# EAGLE library part 418121270812 (library Wurth_Elektronik_Electromechanic_Switchs_rev15b)
WS-IC-2.54 mm small compact SMD Dip Switch with raised actuator,24 pins,12 poles
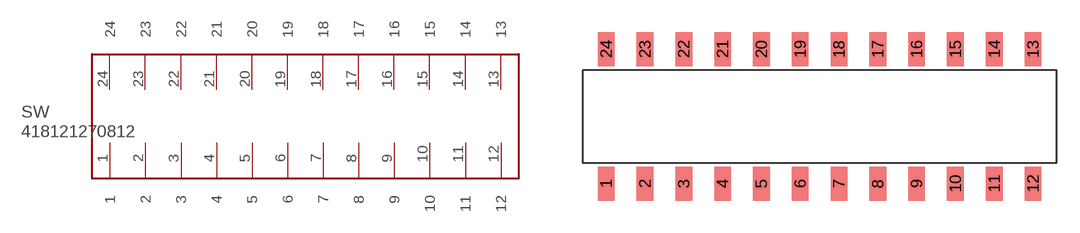
[diagram p47: symbol with the pads of 418121270812; footprint 418121270812]

Designator prefix SW

## 418121270812  [418121270812]
1  1
2  2
3  3
4  4
5  5
6  6
7  7
8  8
9  9
10  10
11  11
12  12
13  13
14  14
15  15
16  16
17  17
18  18
19  19
20  20
21  21
22  22
23  23
24  24

## Footprint 418121270812 (pad centres in mm)
WS-IC-2.54 mm small compact SMD Dip Switch with raised actuator,24 pins,12 poles
smd 1.1 x 2.2: 1 0,-4.4; 2 2.54,-4.4; 3 5.08,-4.4; 4 7.62,-4.4; 5 10.16,-4.4; 6 12.7,-4.4; 7 15.24,-4.4; 8 17.78,-4.4; 9 20.32,-4.4; 10 22.86,-4.4; 11 25.4,-4.4; 12 27.94,-4.4; 13 27.94,4.4; 14 25.4,4.4; 15 22.86,4.4; 16 20.32,4.4; 17 17.78,4.4; 18 15.24,4.4; 19 12.7,4.4; 20 10.16,4.4; 21 7.62,4.4; 22 5.08,4.4; 23 2.54,4.4; 24 0,4.4